# Altium footprint library C2220(5750)x1.6.PcbLib: 1 footprints
Each footprint in its own frame and in the unit in brackets; x right, y up, seen from the top. Pads: shape width x height; smd on the part's side, far side on the other; paste and mask are expansions set on the pad; w line width, h text height; cw(c..) or ccw(c..) is an arc to the next point about the centre after c.
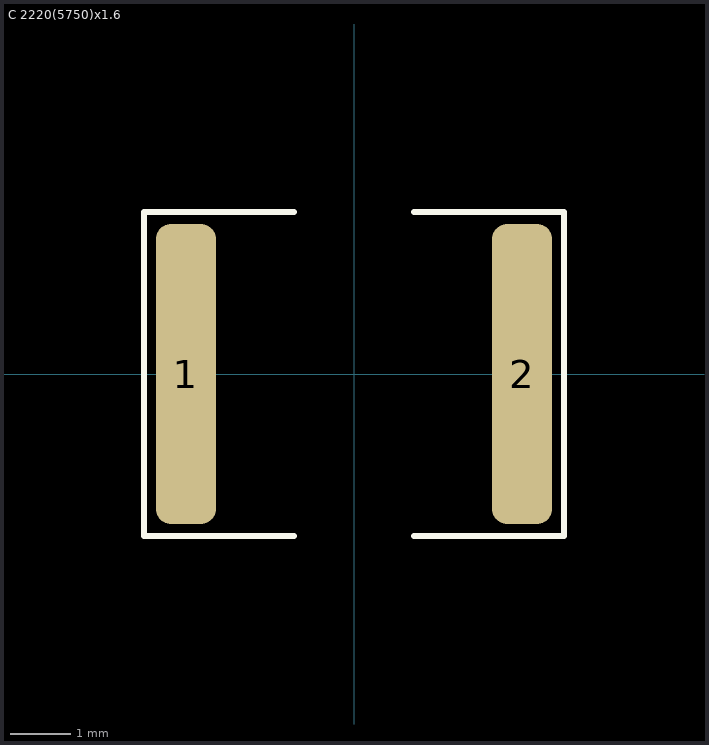
[diagram p0: the footprint, top view; thin cyan lines are the x and y axes]

## C 2220(5750)x1.6 [mm]
height 1.6
pads (2):
  rrect50% 1x5 smd: 1(-2.8,0) 2(2.8,0)
Top Overlay:
  lines w0.1: -1,-2.7 -3.5,-2.7 -3.5,2.7 -1,2.7 ; 1,-2.7 3.5,-2.7 3.5,2.7 1,2.7
3D body "Cap 2220(5750)x160N.STEP": height 1.61, standoff 0, extent -2.85,-2.5 2.85,2.5